# EAGLE library part I6A4W020A033V-001 (library skipzone)
TDK-Lambda i6A Series DC/DC Power Module 9-53V input; 3.3-15V, 20A, 250W output 1/16th brick feature set 001: negative-logic on/off
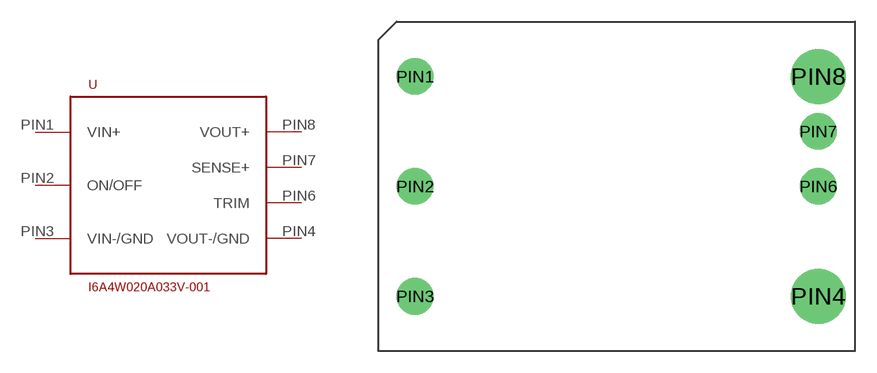
[diagram p1: symbol with the pads of 16TH-BRICK-POWER-MODULE-NO-OPTIONS; footprint 16TH-BRICK-POWER-MODULE-NO-OPTIONS]

Designator prefix -

## I6A4W020A033V-001  [16TH-BRICK-POWER-MODULE-NO-OPTIONS]
PIN1  VIN+
PIN2  ON/OFF
PIN3  VIN-/GND
PIN4  VOUT-/GND
PIN6  TRIM
PIN7  SENSE+
PIN8  VOUT+

## Footprint 16TH-BRICK-POWER-MODULE-NO-OPTIONS (pad centres in mm)
TDK i6A Series - 1/16th Brick Power Module
drill 1.1 pad 2.54: PIN1 -13.97,7.62; PIN2 -13.97,0; PIN3 -13.97,-7.62; PIN6 13.97,0; PIN7 13.97,3.81
drill 1.6 pad 3.81: PIN4 13.97,-7.62; PIN8 13.97,7.62